# EAGLE library part TCA6408AQPWRQ1 (library TCA6408AQPWRQ1)
Automotive Low-Voltage 8-Bit I2C and SMBus I/O Expander With Interrupt Output Source: Datasheet <http://www.ti.com/lit/gpn/tca6408a-q1>
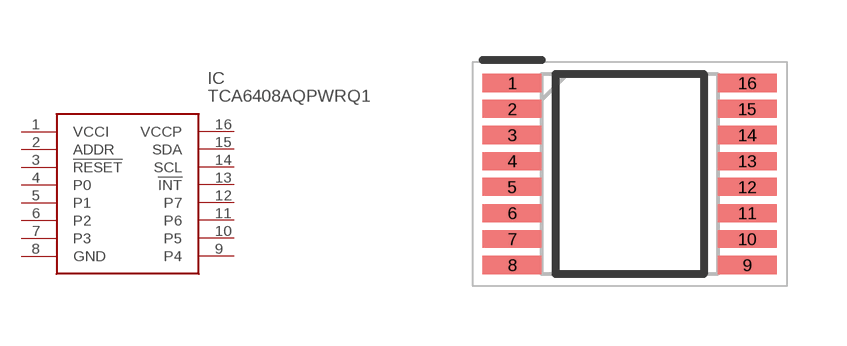
[diagram p0: symbol with the pads of SOP65P640X120-16N; footprint SOP65P640X120-16N]

Designator prefix IC

## TCA6408AQPWRQ1 (ARROW_PART_NUMBER: TCA6408AQPWRQ1; ARROW_PRICE-STOCK: https://www.arrow.com/en/products/tca6408aqpwrq1/texas-instruments; DESCRIPTION: Automotive Low-Voltage 8-Bit I2C and SMBus I/O Expander With Interrupt Output; HEIGHT: 1.2mm; MANUFACTURER_NAME: Texas Instruments; MANUFACTURER_PART_NUMBER: TCA6408AQPWRQ1; MOUSER_PART_NUMBER: 595-TCA6408AQPWRQ1; MOUSER_PRICE-STOCK: https://www.mouser.co.uk/ProductDetail/Texas-Instruments/TCA6408AQPWRQ1/?qs=dn2ehRJXTX%252BDd5mX8WZrSw%3D%3D)  [SOP65P640X120-16N]
1  VCCI
2  ADDR
3  !RESET
4  P0
5  P1
6  P2
7  P3
8  GND
9  P4
10  P5
11  P6
12  P7
13  !INT
14  SCL
15  SDA
16  VCCP

## Footprint SOP65P640X120-16N (pad centres in mm)
PW (R-PDSO-G16)
smd 1.475 x 0.45: 1 -2.938,2.275; 2 -2.938,1.625; 3 -2.938,0.975; 4 -2.938,0.325; 5 -2.938,-0.325; 6 -2.938,-0.975; 7 -2.938,-1.625; 8 -2.938,-2.275; 9 2.938,-2.275; 10 2.938,-1.625; 11 2.938,-0.975; 12 2.938,-0.325; 13 2.938,0.325; 14 2.938,0.975; 15 2.938,1.625; 16 2.938,2.275